# Altium schematic symbol library 9260NGWGNV.SchLib: 1 symbol
Pins are listed as number, name and electrical type; pins without a type are passive.

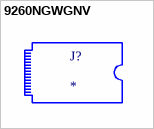
[diagram p0: symbol 9260NGWGNV]

## 9260NGWGNV
designator J?